# Altium integrated library Linear Technology Power Management uModule Regulators.IntLib: 166 symbols (part 65 of 67)
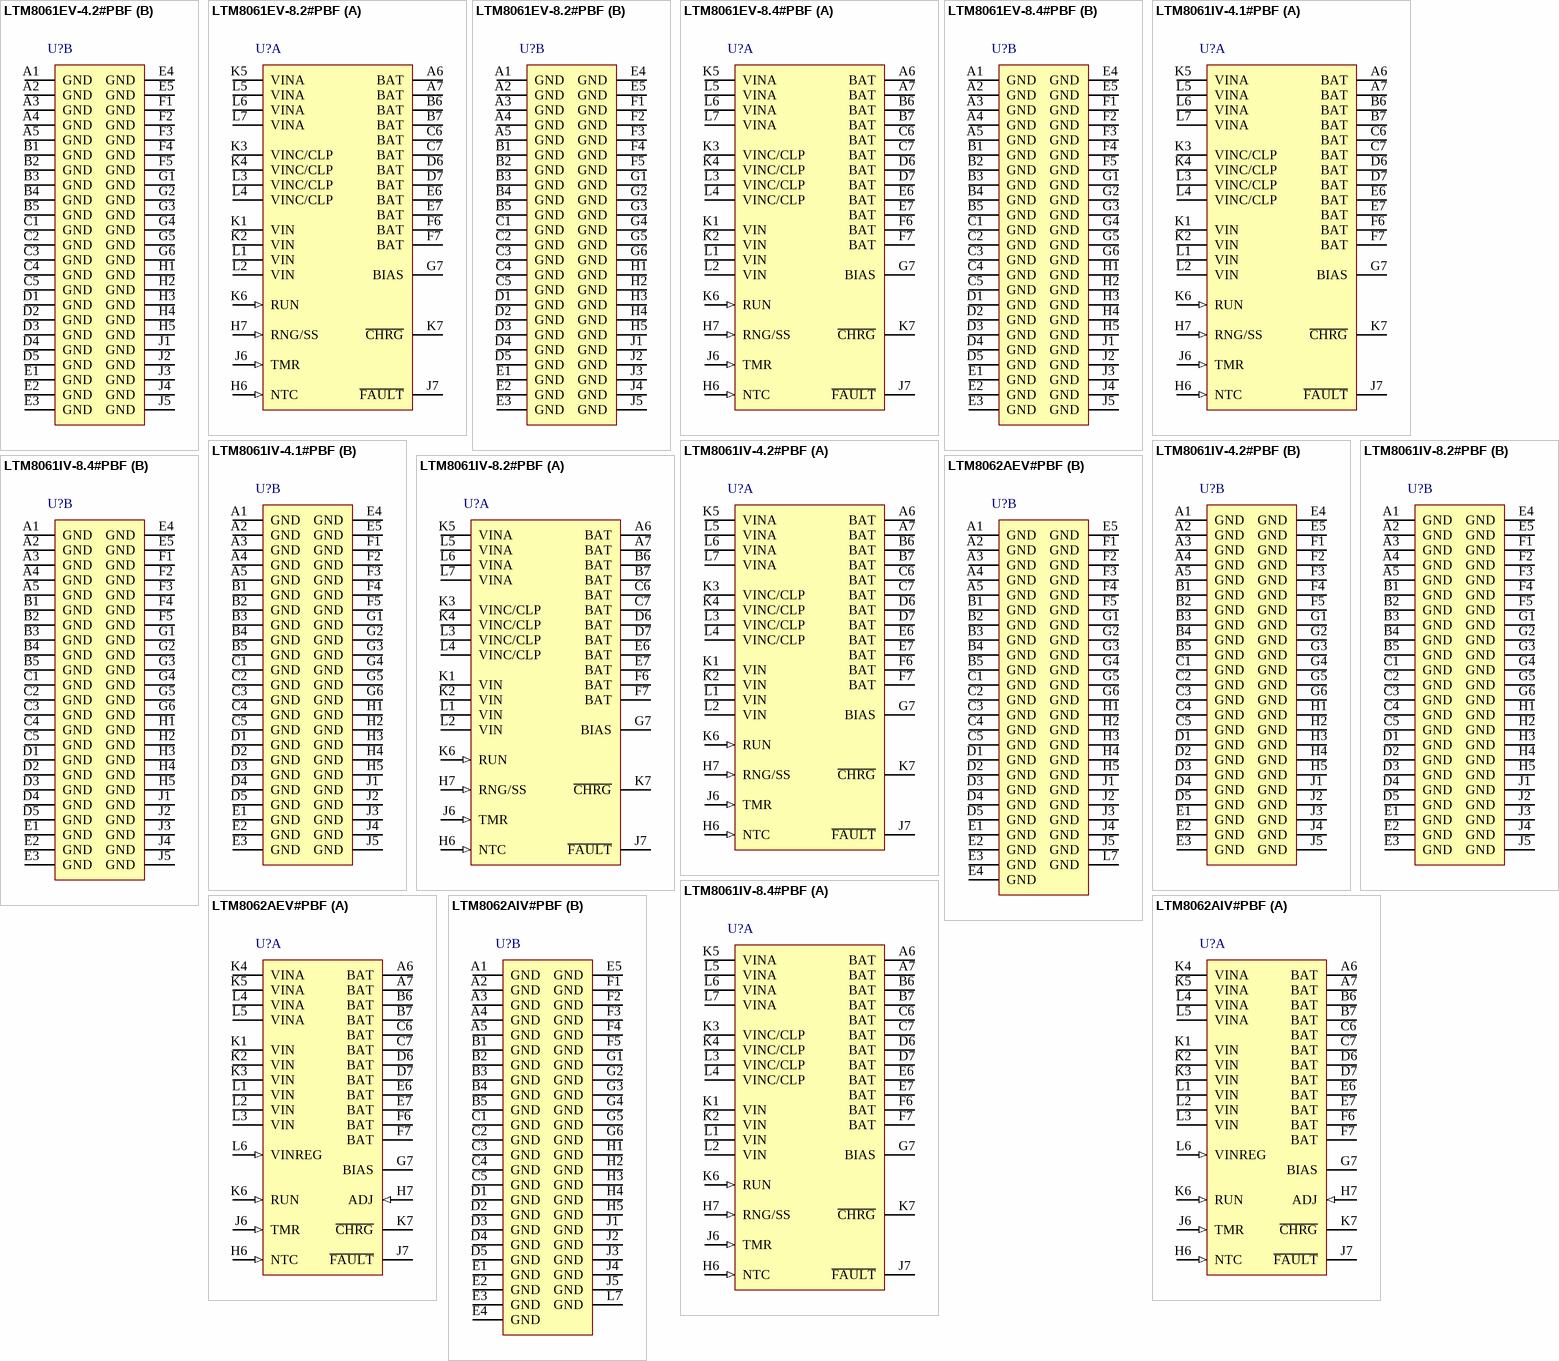
[diagram p91: symbols LTM8061EV-4.2#PBF to LTM8062AIV#PBF]

## LTM8061EV-8.2#PBF
designator U?
32 V, 2 A uModule Li-Ion / Polymer Battery Charger, 77-pin LGA, -40 to 125 degC, Pb-Free, Tray; Manufacturer: Linear Technology; PartNumber: LTM8061EV-8.2#PBF; Extended Temp: E, I; Frequency(kHz): 1000; Ishutdown(uA): 15; Isupply(mA): 0.085; Number of Outputs: 1; Output Current(A): 2; Switch Current(A): 3; Synchronous: no; Topology: Buck; Vin Max(V): 32; Vin Min(V): 4.95; Vout Max(V): 8.24; Vout Min(V): 8.16; PackageVersion: Rev. B, 01/2013; PackageReference: LGA-77; PackageDescription: 77-Pin LGA, Body 15 x 9 mm, Pitch 1.27 mm; Supplier 1: Digi-Key; Supplier Part Number 1: LTM8061EV-8.2#PBF-ND; Supplier 2: Farnell; Supplier Part Number 2: 1865709; Supplier 3: Newark; Supplier Part Number 3: 21T2056; Packing: Tray; RoHS: TRUE; Tracking: no; Mounting Technology: Surface Mount; ComponentLink1Description: Manufacturer URL; ComponentLink1URL: http://www.linear.com/; ComponentLink2Description: Datasheet; ComponentLink2URL: http://cds.linear.com/docs/en/datasheet/8061f.pdf; ComponentLink3Description: Package Specification; ComponentLink3URL: http://cds.linear.com/docs/en/packaging/05081856_B_lga77.pdf
footprint LT-LGA-77-05-08-1856_V (LGA, 77-Leads, Body 15x9mm, Pitch 1.27mm)
part A pins: A6 BAT (power) "Battery Charge Current Output Bus. The charge function operates to achieve the final float voltage at this pin. The auto-restart feature initiates a new charge cycle when the voltage at the BAT pin falls 2.5% below the float (See Datasheet)", A7 BAT (power) "Battery Charge Current Output Bus. The charge function operates to achieve the final float voltage at this pin. The auto-restart feature initiates a new charge cycle when the voltage at the BAT pin falls 2.5% below the float (See Datasheet)", B6 BAT (power) "Battery Charge Current Output Bus. The charge function operates to achieve the final float voltage at this pin. The auto-restart feature initiates a new charge cycle when the voltage at the BAT pin falls 2.5% below the float (See Datasheet)", B7 BAT (power) "Battery Charge Current Output Bus. The charge function operates to achieve the final float voltage at this pin. The auto-restart feature initiates a new charge cycle when the voltage at the BAT pin falls 2.5% below the float (See Datasheet)", C6 BAT (power) "Battery Charge Current Output Bus. The charge function operates to achieve the final float voltage at this pin. The auto-restart feature initiates a new charge cycle when the voltage at the BAT pin falls 2.5% below the float (See Datasheet)", C7 BAT (power) "Battery Charge Current Output Bus. The charge function operates to achieve the final float voltage at this pin. The auto-restart feature initiates a new charge cycle when the voltage at the BAT pin falls 2.5% below the float (See Datasheet)", D6 BAT (power) "Battery Charge Current Output Bus. The charge function operates to achieve the final float voltage at this pin. The auto-restart feature initiates a new charge cycle when the voltage at the BAT pin falls 2.5% below the float (See Datasheet)", D7 BAT (power) "Battery Charge Current Output Bus. The charge function operates to achieve the final float voltage at this pin. The auto-restart feature initiates a new charge cycle when the voltage at the BAT pin falls 2.5% below the float (See Datasheet)", E6 BAT (power) "Battery Charge Current Output Bus. The charge function operates to achieve the final float voltage at this pin. The auto-restart feature initiates a new charge cycle when the voltage at the BAT pin falls 2.5% below the float (See Datasheet)", E7 BAT (power) "Battery Charge Current Output Bus. The charge function operates to achieve the final float voltage at this pin. The auto-restart feature initiates a new charge cycle when the voltage at the BAT pin falls 2.5% below the float (See Datasheet)", F6 BAT (power) "Battery Charge Current Output Bus. The charge function operates to achieve the final float voltage at this pin. The auto-restart feature initiates a new charge cycle when the voltage at the BAT pin falls 2.5% below the float (See Datasheet)", F7 BAT (power) "Battery Charge Current Output Bus. The charge function operates to achieve the final float voltage at this pin. The auto-restart feature initiates a new charge cycle when the voltage at the BAT pin falls 2.5% below the float (See Datasheet)", G7 BIAS (power) "The BIAS pin connects to the internal power bus. Connect to a power source greater than 2.5V and less than 10V. In most applications, connect BIAS to BAT", H6 NTC (in) "Battery Temperature Monitor Pin. This pin is the input to the NTC (negative temperature coefficient) thermistor temperature monitoring circuit.", H7 RNG/SS (in) "Charge Current Programming/Soft-Start Pin.", J6 TMR (in) "End-Of-Cycle Timer Programming Pin.If a timer-based charge termination is desired, connect a capacitor from this pin to ground.", J7 ~{FAULT} (hiz) "Open-Collector Fault Status Output. Typically pulled up through a resistor to a reference voltage.", K1 VIN (power) "Charger Input Supply. Apply CIN here. Connect the input power here if no input power rectification is required.", K2 VIN (power) "Charger Input Supply. Apply CIN here. Connect the input power here if no input power rectification is required.", K3 VINC/CLP (power) "This pad bank connects to the cathode of the input reverse protection diode. In addition, system current levels can be monitored by connecting a sense resistor from this pin to the VIN pin.", K4 VINC/CLP (power) "This pad bank connects to the cathode of the input reverse protection diode. In addition, system current levels can be monitored by connecting a sense resistor from this pin to the VIN pin.", K5 VINA (power) "Anode of Input Reverse Protection Schottky Diode. Connect the input power here if input voltage protection is desired.", K6 RUN (in) "Precision Threshold Enable Pin. The RUN threshold is 1.20V (rising), with 120mV of input hysteresis.", K7 ~{CHRG} (hiz) "Open-Collector Charger Status Output.Typically pulled up through a resistor to a reference voltage.This status pin can be pulled up to voltages as high as VIN and can sink currents up to 10mA. During a battery charge cycle, (See Datasheet)", L1 VIN (power) "Charger Input Supply. Apply CIN here. Connect the input power here if no input power rectification is required.", L2 VIN (power) "Charger Input Supply. Apply CIN here. Connect the input power here if no input power rectification is required.", L3 VINC/CLP (power) "This pad bank connects to the cathode of the input reverse protection diode. In addition, system current levels can be monitored by connecting a sense resistor from this pin to the VIN pin.", L4 VINC/CLP (power) "This pad bank connects to the cathode of the input reverse protection diode. In addition, system current levels can be monitored by connecting a sense resistor from this pin to the VIN pin.", L5 VINA (power) "Anode of Input Reverse Protection Schottky Diode. Connect the input power here if input voltage protection is desired.", L6 VINA (power) "Anode of Input Reverse Protection Schottky Diode. Connect the input power here if input voltage protection is desired.", L7 VINA (power) "Anode of Input Reverse Protection Schottky Diode. Connect the input power here if input voltage protection is desired."
part B pins: A1 GND (power) "Power and Signal Ground Return.", A2 GND (power) "Power and Signal Ground Return.", A3 GND (power) "Power and Signal Ground Return.", A4 GND (power) "Power and Signal Ground Return.", A5 GND (power) "Power and Signal Ground Return.", B1 GND (power) "Power and Signal Ground Return.", B2 GND (power) "Power and Signal Ground Return.", B3 GND (power) "Power and Signal Ground Return.", B4 GND (power) "Power and Signal Ground Return.", B5 GND (power) "Power and Signal Ground Return.", C1 GND (power) "Power and Signal Ground Return.", C2 GND (power) "Power and Signal Ground Return.", C3 GND (power) "Power and Signal Ground Return.", C4 GND (power) "Power and Signal Ground Return.", C5 GND (power) "Power and Signal Ground Return.", D1 GND (power) "Power and Signal Ground Return.", D2 GND (power) "Power and Signal Ground Return.", D3 GND (power) "Power and Signal Ground Return.", D4 GND (power) "Power and Signal Ground Return.", D5 GND (power) "Power and Signal Ground Return.", E1 GND (power) "Power and Signal Ground Return.", E2 GND (power) "Power and Signal Ground Return.", E3 GND (power) "Power and Signal Ground Return.", E4 GND (power) "Power and Signal Ground Return.", E5 GND (power) "Power and Signal Ground Return.", F1 GND (power) "Power and Signal Ground Return.", F2 GND (power) "Power and Signal Ground Return.", F3 GND (power) "Power and Signal Ground Return.", F4 GND (power) "Power and Signal Ground Return.", F5 GND (power) "Power and Signal Ground Return.", G1 GND (power) "Power and Signal Ground Return.", G2 GND (power) "Power and Signal Ground Return.", G3 GND (power) "Power and Signal Ground Return.", G4 GND (power) "Power and Signal Ground Return.", G5 GND (power) "Power and Signal Ground Return.", G6 GND (power) "Power and Signal Ground Return.", H1 GND (power) "Power and Signal Ground Return.", H2 GND (power) "Power and Signal Ground Return.", H3 GND (power) "Power and Signal Ground Return.", H4 GND (power) "Power and Signal Ground Return.", H5 GND (power) "Power and Signal Ground Return.", J1 GND (power) "Power and Signal Ground Return.", J2 GND (power) "Power and Signal Ground Return.", J3 GND (power) "Power and Signal Ground Return.", J4 GND (power) "Power and Signal Ground Return.", J5 GND (power) "Power and Signal Ground Return."

## LTM8061EV-8.4#PBF
designator U?
32 V, 2 A uModule Li-Ion / Polymer Battery Charger, 77-pin LGA, -40 to 125 degC, Pb-Free, Tray; Manufacturer: Linear Technology; PartNumber: LTM8061EV-8.4#PBF; Extended Temp: E, I; Frequency(kHz): 1000; Ishutdown(uA): 15; Isupply(mA): 0.085; Number of Outputs: 1; Output Current(A): 2; Switch Current(A): 3; Synchronous: no; Topology: Buck; Vin Max(V): 32; Vin Min(V): 4.95; Vout Max(V): 8.44; Vout Min(V): 8.36; PackageVersion: Rev. B, 01/2013; PackageReference: LGA-77; PackageDescription: 77-Pin LGA, Body 15 x 9 mm, Pitch 1.27 mm; Supplier 1: Digi-Key; Supplier Part Number 1: LTM8061EV-8.4#PBF-ND; Supplier 2: Farnell; Supplier Part Number 2: 1865708; Supplier 3: Newark; Supplier Part Number 3: 21T2057; Packing: Tray; RoHS: TRUE; Tracking: no; Mounting Technology: Surface Mount; ComponentLink1Description: Manufacturer URL; ComponentLink1URL: http://www.linear.com/; ComponentLink2Description: Datasheet; ComponentLink2URL: http://cds.linear.com/docs/en/datasheet/8061f.pdf; ComponentLink3Description: Package Specification; ComponentLink3URL: http://cds.linear.com/docs/en/packaging/05081856_B_lga77.pdf
footprint LT-LGA-77-05-08-1856_V (LGA, 77-Leads, Body 15x9mm, Pitch 1.27mm)
part A pins: A6 BAT (power) "Battery Charge Current Output Bus. The charge function operates to achieve the final float voltage at this pin. The auto-restart feature initiates a new charge cycle when the voltage at the BAT pin falls 2.5% below the float (See Datasheet)", A7 BAT (power) "Battery Charge Current Output Bus. The charge function operates to achieve the final float voltage at this pin. The auto-restart feature initiates a new charge cycle when the voltage at the BAT pin falls 2.5% below the float (See Datasheet)", B6 BAT (power) "Battery Charge Current Output Bus. The charge function operates to achieve the final float voltage at this pin. The auto-restart feature initiates a new charge cycle when the voltage at the BAT pin falls 2.5% below the float (See Datasheet)", B7 BAT (power) "Battery Charge Current Output Bus. The charge function operates to achieve the final float voltage at this pin. The auto-restart feature initiates a new charge cycle when the voltage at the BAT pin falls 2.5% below the float (See Datasheet)", C6 BAT (power) "Battery Charge Current Output Bus. The charge function operates to achieve the final float voltage at this pin. The auto-restart feature initiates a new charge cycle when the voltage at the BAT pin falls 2.5% below the float (See Datasheet)", C7 BAT (power) "Battery Charge Current Output Bus. The charge function operates to achieve the final float voltage at this pin. The auto-restart feature initiates a new charge cycle when the voltage at the BAT pin falls 2.5% below the float (See Datasheet)", D6 BAT (power) "Battery Charge Current Output Bus. The charge function operates to achieve the final float voltage at this pin. The auto-restart feature initiates a new charge cycle when the voltage at the BAT pin falls 2.5% below the float (See Datasheet)", D7 BAT (power) "Battery Charge Current Output Bus. The charge function operates to achieve the final float voltage at this pin. The auto-restart feature initiates a new charge cycle when the voltage at the BAT pin falls 2.5% below the float (See Datasheet)", E6 BAT (power) "Battery Charge Current Output Bus. The charge function operates to achieve the final float voltage at this pin. The auto-restart feature initiates a new charge cycle when the voltage at the BAT pin falls 2.5% below the float (See Datasheet)", E7 BAT (power) "Battery Charge Current Output Bus. The charge function operates to achieve the final float voltage at this pin. The auto-restart feature initiates a new charge cycle when the voltage at the BAT pin falls 2.5% below the float (See Datasheet)", F6 BAT (power) "Battery Charge Current Output Bus. The charge function operates to achieve the final float voltage at this pin. The auto-restart feature initiates a new charge cycle when the voltage at the BAT pin falls 2.5% below the float (See Datasheet)", F7 BAT (power) "Battery Charge Current Output Bus. The charge function operates to achieve the final float voltage at this pin. The auto-restart feature initiates a new charge cycle when the voltage at the BAT pin falls 2.5% below the float (See Datasheet)", G7 BIAS (power) "The BIAS pin connects to the internal power bus. Connect to a power source greater than 2.5V and less than 10V. In most applications, connect BIAS to BAT", H6 NTC (in) "Battery Temperature Monitor Pin. This pin is the input to the NTC (negative temperature coefficient) thermistor temperature monitoring circuit.", H7 RNG/SS (in) "Charge Current Programming/Soft-Start Pin.", J6 TMR (in) "End-Of-Cycle Timer Programming Pin.If a timer-based charge termination is desired, connect a capacitor from this pin to ground.", J7 ~{FAULT} (hiz) "Open-Collector Fault Status Output. Typically pulled up through a resistor to a reference voltage.", K1 VIN (power) "Charger Input Supply. Apply CIN here. Connect the input power here if no input power rectification is required.", K2 VIN (power) "Charger Input Supply. Apply CIN here. Connect the input power here if no input power rectification is required.", K3 VINC/CLP (power) "This pad bank connects to the cathode of the input reverse protection diode. In addition, system current levels can be monitored by connecting a sense resistor from this pin to the VIN pin.", K4 VINC/CLP (power) "This pad bank connects to the cathode of the input reverse protection diode. In addition, system current levels can be monitored by connecting a sense resistor from this pin to the VIN pin.", K5 VINA (power) "Anode of Input Reverse Protection Schottky Diode. Connect the input power here if input voltage protection is desired.", K6 RUN (in) "Precision Threshold Enable Pin. The RUN threshold is 1.20V (rising), with 120mV of input hysteresis.", K7 ~{CHRG} (hiz) "Open-Collector Charger Status Output.Typically pulled up through a resistor to a reference voltage.This status pin can be pulled up to voltages as high as VIN and can sink currents up to 10mA. During a battery charge cycle, (See Datasheet)", L1 VIN (power) "Charger Input Supply. Apply CIN here. Connect the input power here if no input power rectification is required.", L2 VIN (power) "Charger Input Supply. Apply CIN here. Connect the input power here if no input power rectification is required.", L3 VINC/CLP (power) "This pad bank connects to the cathode of the input reverse protection diode. In addition, system current levels can be monitored by connecting a sense resistor from this pin to the VIN pin.", L4 VINC/CLP (power) "This pad bank connects to the cathode of the input reverse protection diode. In addition, system current levels can be monitored by connecting a sense resistor from this pin to the VIN pin.", L5 VINA (power) "Anode of Input Reverse Protection Schottky Diode. Connect the input power here if input voltage protection is desired.", L6 VINA (power) "Anode of Input Reverse Protection Schottky Diode. Connect the input power here if input voltage protection is desired.", L7 VINA (power) "Anode of Input Reverse Protection Schottky Diode. Connect the input power here if input voltage protection is desired."
part B pins: A1 GND (power) "Power and Signal Ground Return.", A2 GND (power) "Power and Signal Ground Return.", A3 GND (power) "Power and Signal Ground Return.", A4 GND (power) "Power and Signal Ground Return.", A5 GND (power) "Power and Signal Ground Return.", B1 GND (power) "Power and Signal Ground Return.", B2 GND (power) "Power and Signal Ground Return.", B3 GND (power) "Power and Signal Ground Return.", B4 GND (power) "Power and Signal Ground Return.", B5 GND (power) "Power and Signal Ground Return.", C1 GND (power) "Power and Signal Ground Return.", C2 GND (power) "Power and Signal Ground Return.", C3 GND (power) "Power and Signal Ground Return.", C4 GND (power) "Power and Signal Ground Return.", C5 GND (power) "Power and Signal Ground Return.", D1 GND (power) "Power and Signal Ground Return.", D2 GND (power) "Power and Signal Ground Return.", D3 GND (power) "Power and Signal Ground Return.", D4 GND (power) "Power and Signal Ground Return.", D5 GND (power) "Power and Signal Ground Return.", E1 GND (power) "Power and Signal Ground Return.", E2 GND (power) "Power and Signal Ground Return.", E3 GND (power) "Power and Signal Ground Return.", E4 GND (power) "Power and Signal Ground Return.", E5 GND (power) "Power and Signal Ground Return.", F1 GND (power) "Power and Signal Ground Return.", F2 GND (power) "Power and Signal Ground Return.", F3 GND (power) "Power and Signal Ground Return.", F4 GND (power) "Power and Signal Ground Return.", F5 GND (power) "Power and Signal Ground Return.", G1 GND (power) "Power and Signal Ground Return.", G2 GND (power) "Power and Signal Ground Return.", G3 GND (power) "Power and Signal Ground Return.", G4 GND (power) "Power and Signal Ground Return.", G5 GND (power) "Power and Signal Ground Return.", G6 GND (power) "Power and Signal Ground Return.", H1 GND (power) "Power and Signal Ground Return.", H2 GND (power) "Power and Signal Ground Return.", H3 GND (power) "Power and Signal Ground Return.", H4 GND (power) "Power and Signal Ground Return.", H5 GND (power) "Power and Signal Ground Return.", J1 GND (power) "Power and Signal Ground Return.", J2 GND (power) "Power and Signal Ground Return.", J3 GND (power) "Power and Signal Ground Return.", J4 GND (power) "Power and Signal Ground Return.", J5 GND (power) "Power and Signal Ground Return."

## LTM8061IV-4.1#PBF
designator U?
32 V, 2 A uModule Li-Ion / Polymer Battery Charger, 77-pin LGA, -40 to 125 degC, Pb-Free, Tray; Manufacturer: Linear Technology; PartNumber: LTM8061IV-4.1#PBF; Extended Temp: E, I; Frequency(kHz): 1000; Ishutdown(uA): 15; Isupply(mA): 0.085; Number of Outputs: 1; Output Current(A): 2; Switch Current(A): 3; Synchronous: no; Topology: Buck; Vin Max(V): 32; Vin Min(V): 4.95; Vout Max(V): 4.12; Vout Min(V): 4.08; PackageVersion: Rev. B, 01/2013; PackageReference: LGA-77; PackageDescription: 77-Pin LGA, Body 15 x 9 mm, Pitch 1.27 mm; Supplier 1: Digi-Key; Supplier Part Number 1: LTM8061IV-4.1#PBF-ND; Supplier 2: Farnell; Supplier Part Number 2: 1865707; Supplier 3: Newark; Supplier Part Number 3: 21T2058; Packing: Tray; RoHS: TRUE; Tracking: no; Mounting Technology: Surface Mount; ComponentLink1Description: Manufacturer URL; ComponentLink1URL: http://www.linear.com/; ComponentLink2Description: Datasheet; ComponentLink2URL: http://cds.linear.com/docs/en/datasheet/8061f.pdf; ComponentLink3Description: Package Specification; ComponentLink3URL: http://cds.linear.com/docs/en/packaging/05081856_B_lga77.pdf
footprint LT-LGA-77-05-08-1856_V (LGA, 77-Leads, Body 15x9mm, Pitch 1.27mm)
part A pins: A6 BAT (power) "Battery Charge Current Output Bus. The charge function operates to achieve the final float voltage at this pin. The auto-restart feature initiates a new charge cycle when the voltage at the BAT pin falls 2.5% below the float (See Datasheet)", A7 BAT (power) "Battery Charge Current Output Bus. The charge function operates to achieve the final float voltage at this pin. The auto-restart feature initiates a new charge cycle when the voltage at the BAT pin falls 2.5% below the float (See Datasheet)", B6 BAT (power) "Battery Charge Current Output Bus. The charge function operates to achieve the final float voltage at this pin. The auto-restart feature initiates a new charge cycle when the voltage at the BAT pin falls 2.5% below the float (See Datasheet)", B7 BAT (power) "Battery Charge Current Output Bus. The charge function operates to achieve the final float voltage at this pin. The auto-restart feature initiates a new charge cycle when the voltage at the BAT pin falls 2.5% below the float (See Datasheet)", C6 BAT (power) "Battery Charge Current Output Bus. The charge function operates to achieve the final float voltage at this pin. The auto-restart feature initiates a new charge cycle when the voltage at the BAT pin falls 2.5% below the float (See Datasheet)", C7 BAT (power) "Battery Charge Current Output Bus. The charge function operates to achieve the final float voltage at this pin. The auto-restart feature initiates a new charge cycle when the voltage at the BAT pin falls 2.5% below the float (See Datasheet)", D6 BAT (power) "Battery Charge Current Output Bus. The charge function operates to achieve the final float voltage at this pin. The auto-restart feature initiates a new charge cycle when the voltage at the BAT pin falls 2.5% below the float (See Datasheet)", D7 BAT (power) "Battery Charge Current Output Bus. The charge function operates to achieve the final float voltage at this pin. The auto-restart feature initiates a new charge cycle when the voltage at the BAT pin falls 2.5% below the float (See Datasheet)", E6 BAT (power) "Battery Charge Current Output Bus. The charge function operates to achieve the final float voltage at this pin. The auto-restart feature initiates a new charge cycle when the voltage at the BAT pin falls 2.5% below the float (See Datasheet)", E7 BAT (power) "Battery Charge Current Output Bus. The charge function operates to achieve the final float voltage at this pin. The auto-restart feature initiates a new charge cycle when the voltage at the BAT pin falls 2.5% below the float (See Datasheet)", F6 BAT (power) "Battery Charge Current Output Bus. The charge function operates to achieve the final float voltage at this pin. The auto-restart feature initiates a new charge cycle when the voltage at the BAT pin falls 2.5% below the float (See Datasheet)", F7 BAT (power) "Battery Charge Current Output Bus. The charge function operates to achieve the final float voltage at this pin. The auto-restart feature initiates a new charge cycle when the voltage at the BAT pin falls 2.5% below the float (See Datasheet)", G7 BIAS (power) "The BIAS pin connects to the internal power bus. Connect to a power source greater than 2.5V and less than 10V. In most applications, connect BIAS to BAT", H6 NTC (in) "Battery Temperature Monitor Pin. This pin is the input to the NTC (negative temperature coefficient) thermistor temperature monitoring circuit.", H7 RNG/SS (in) "Charge Current Programming/Soft-Start Pin.", J6 TMR (in) "End-Of-Cycle Timer Programming Pin.If a timer-based charge termination is desired, connect a capacitor from this pin to ground.", J7 ~{FAULT} (hiz) "Open-Collector Fault Status Output. Typically pulled up through a resistor to a reference voltage.", K1 VIN (power) "Charger Input Supply. Apply CIN here. Connect the input power here if no input power rectification is required.", K2 VIN (power) "Charger Input Supply. Apply CIN here. Connect the input power here if no input power rectification is required.", K3 VINC/CLP (power) "This pad bank connects to the cathode of the input reverse protection diode. In addition, system current levels can be monitored by connecting a sense resistor from this pin to the VIN pin.", K4 VINC/CLP (power) "This pad bank connects to the cathode of the input reverse protection diode. In addition, system current levels can be monitored by connecting a sense resistor from this pin to the VIN pin.", K5 VINA (power) "Anode of Input Reverse Protection Schottky Diode. Connect the input power here if input voltage protection is desired.", K6 RUN (in) "Precision Threshold Enable Pin. The RUN threshold is 1.20V (rising), with 120mV of input hysteresis.", K7 ~{CHRG} (hiz) "Open-Collector Charger Status Output.Typically pulled up through a resistor to a reference voltage.This status pin can be pulled up to voltages as high as VIN and can sink currents up to 10mA. During a battery charge cycle, (See Datasheet)", L1 VIN (power) "Charger Input Supply. Apply CIN here. Connect the input power here if no input power rectification is required.", L2 VIN (power) "Charger Input Supply. Apply CIN here. Connect the input power here if no input power rectification is required.", L3 VINC/CLP (power) "This pad bank connects to the cathode of the input reverse protection diode. In addition, system current levels can be monitored by connecting a sense resistor from this pin to the VIN pin.", L4 VINC/CLP (power) "This pad bank connects to the cathode of the input reverse protection diode. In addition, system current levels can be monitored by connecting a sense resistor from this pin to the VIN pin.", L5 VINA (power) "Anode of Input Reverse Protection Schottky Diode. Connect the input power here if input voltage protection is desired.", L6 VINA (power) "Anode of Input Reverse Protection Schottky Diode. Connect the input power here if input voltage protection is desired.", L7 VINA (power) "Anode of Input Reverse Protection Schottky Diode. Connect the input power here if input voltage protection is desired."
part B pins: A1 GND (power) "Power and Signal Ground Return.", A2 GND (power) "Power and Signal Ground Return.", A3 GND (power) "Power and Signal Ground Return.", A4 GND (power) "Power and Signal Ground Return.", A5 GND (power) "Power and Signal Ground Return.", B1 GND (power) "Power and Signal Ground Return.", B2 GND (power) "Power and Signal Ground Return.", B3 GND (power) "Power and Signal Ground Return.", B4 GND (power) "Power and Signal Ground Return.", B5 GND (power) "Power and Signal Ground Return.", C1 GND (power) "Power and Signal Ground Return.", C2 GND (power) "Power and Signal Ground Return.", C3 GND (power) "Power and Signal Ground Return.", C4 GND (power) "Power and Signal Ground Return.", C5 GND (power) "Power and Signal Ground Return.", D1 GND (power) "Power and Signal Ground Return.", D2 GND (power) "Power and Signal Ground Return.", D3 GND (power) "Power and Signal Ground Return.", D4 GND (power) "Power and Signal Ground Return.", D5 GND (power) "Power and Signal Ground Return.", E1 GND (power) "Power and Signal Ground Return.", E2 GND (power) "Power and Signal Ground Return.", E3 GND (power) "Power and Signal Ground Return.", E4 GND (power) "Power and Signal Ground Return.", E5 GND (power) "Power and Signal Ground Return.", F1 GND (power) "Power and Signal Ground Return.", F2 GND (power) "Power and Signal Ground Return.", F3 GND (power) "Power and Signal Ground Return.", F4 GND (power) "Power and Signal Ground Return.", F5 GND (power) "Power and Signal Ground Return.", G1 GND (power) "Power and Signal Ground Return.", G2 GND (power) "Power and Signal Ground Return.", G3 GND (power) "Power and Signal Ground Return.", G4 GND (power) "Power and Signal Ground Return.", G5 GND (power) "Power and Signal Ground Return.", G6 GND (power) "Power and Signal Ground Return.", H1 GND (power) "Power and Signal Ground Return.", H2 GND (power) "Power and Signal Ground Return.", H3 GND (power) "Power and Signal Ground Return.", H4 GND (power) "Power and Signal Ground Return.", H5 GND (power) "Power and Signal Ground Return.", J1 GND (power) "Power and Signal Ground Return.", J2 GND (power) "Power and Signal Ground Return.", J3 GND (power) "Power and Signal Ground Return.", J4 GND (power) "Power and Signal Ground Return.", J5 GND (power) "Power and Signal Ground Return."

## LTM8061IV-4.2#PBF
designator U?
32 V, 2 A uModule Li-Ion / Polymer Battery Charger, 77-pin LGA, -40 to 125 degC, Pb-Free, Tray; Manufacturer: Linear Technology; PartNumber: LTM8061IV-4.2#PBF; Extended Temp: E, I; Frequency(kHz): 1000; Ishutdown(uA): 15; Isupply(mA): 0.085; Number of Outputs: 1; Output Current(A): 2; Switch Current(A): 3; Synchronous: no; Topology: Buck; Vin Max(V): 32; Vin Min(V): 4.95; Vout Max(V): 4.22; Vout Min(V): 4.18; PackageVersion: Rev. B, 01/2013; PackageReference: LGA-77; PackageDescription: 77-Pin LGA, Body 15 x 9 mm, Pitch 1.27 mm; Supplier 1: Digi-Key; Supplier Part Number 1: LTM8061IV-4.2#PBF-ND; Supplier 2: Farnell; Supplier Part Number 2: 1865706; Supplier 3: Newark; Supplier Part Number 3: 21T2059; Packing: Tray; RoHS: TRUE; Tracking: no; Mounting Technology: Surface Mount; ComponentLink1Description: Manufacturer URL; ComponentLink1URL: http://www.linear.com/; ComponentLink2Description: Datasheet; ComponentLink2URL: http://cds.linear.com/docs/en/datasheet/8061f.pdf; ComponentLink3Description: Package Specification; ComponentLink3URL: http://cds.linear.com/docs/en/packaging/05081856_B_lga77.pdf
footprint LT-LGA-77-05-08-1856_V (LGA, 77-Leads, Body 15x9mm, Pitch 1.27mm)
part A pins: A6 BAT (power) "Battery Charge Current Output Bus. The charge function operates to achieve the final float voltage at this pin. The auto-restart feature initiates a new charge cycle when the voltage at the BAT pin falls 2.5% below the float (See Datasheet)", A7 BAT (power) "Battery Charge Current Output Bus. The charge function operates to achieve the final float voltage at this pin. The auto-restart feature initiates a new charge cycle when the voltage at the BAT pin falls 2.5% below the float (See Datasheet)", B6 BAT (power) "Battery Charge Current Output Bus. The charge function operates to achieve the final float voltage at this pin. The auto-restart feature initiates a new charge cycle when the voltage at the BAT pin falls 2.5% below the float (See Datasheet)", B7 BAT (power) "Battery Charge Current Output Bus. The charge function operates to achieve the final float voltage at this pin. The auto-restart feature initiates a new charge cycle when the voltage at the BAT pin falls 2.5% below the float (See Datasheet)", C6 BAT (power) "Battery Charge Current Output Bus. The charge function operates to achieve the final float voltage at this pin. The auto-restart feature initiates a new charge cycle when the voltage at the BAT pin falls 2.5% below the float (See Datasheet)", C7 BAT (power) "Battery Charge Current Output Bus. The charge function operates to achieve the final float voltage at this pin. The auto-restart feature initiates a new charge cycle when the voltage at the BAT pin falls 2.5% below the float (See Datasheet)", D6 BAT (power) "Battery Charge Current Output Bus. The charge function operates to achieve the final float voltage at this pin. The auto-restart feature initiates a new charge cycle when the voltage at the BAT pin falls 2.5% below the float (See Datasheet)", D7 BAT (power) "Battery Charge Current Output Bus. The charge function operates to achieve the final float voltage at this pin. The auto-restart feature initiates a new charge cycle when the voltage at the BAT pin falls 2.5% below the float (See Datasheet)", E6 BAT (power) "Battery Charge Current Output Bus. The charge function operates to achieve the final float voltage at this pin. The auto-restart feature initiates a new charge cycle when the voltage at the BAT pin falls 2.5% below the float (See Datasheet)", E7 BAT (power) "Battery Charge Current Output Bus. The charge function operates to achieve the final float voltage at this pin. The auto-restart feature initiates a new charge cycle when the voltage at the BAT pin falls 2.5% below the float (See Datasheet)", F6 BAT (power) "Battery Charge Current Output Bus. The charge function operates to achieve the final float voltage at this pin. The auto-restart feature initiates a new charge cycle when the voltage at the BAT pin falls 2.5% below the float (See Datasheet)", F7 BAT (power) "Battery Charge Current Output Bus. The charge function operates to achieve the final float voltage at this pin. The auto-restart feature initiates a new charge cycle when the voltage at the BAT pin falls 2.5% below the float (See Datasheet)", G7 BIAS (power) "The BIAS pin connects to the internal power bus. Connect to a power source greater than 2.5V and less than 10V. In most applications, connect BIAS to BAT", H6 NTC (in) "Battery Temperature Monitor Pin. This pin is the input to the NTC (negative temperature coefficient) thermistor temperature monitoring circuit.", H7 RNG/SS (in) "Charge Current Programming/Soft-Start Pin.", J6 TMR (in) "End-Of-Cycle Timer Programming Pin.If a timer-based charge termination is desired, connect a capacitor from this pin to ground.", J7 ~{FAULT} (hiz) "Open-Collector Fault Status Output. Typically pulled up through a resistor to a reference voltage.", K1 VIN (power) "Charger Input Supply. Apply CIN here. Connect the input power here if no input power rectification is required.", K2 VIN (power) "Charger Input Supply. Apply CIN here. Connect the input power here if no input power rectification is required.", K3 VINC/CLP (power) "This pad bank connects to the cathode of the input reverse protection diode. In addition, system current levels can be monitored by connecting a sense resistor from this pin to the VIN pin.", K4 VINC/CLP (power) "This pad bank connects to the cathode of the input reverse protection diode. In addition, system current levels can be monitored by connecting a sense resistor from this pin to the VIN pin.", K5 VINA (power) "Anode of Input Reverse Protection Schottky Diode. Connect the input power here if input voltage protection is desired.", K6 RUN (in) "Precision Threshold Enable Pin. The RUN threshold is 1.20V (rising), with 120mV of input hysteresis.", K7 ~{CHRG} (hiz) "Open-Collector Charger Status Output.Typically pulled up through a resistor to a reference voltage.This status pin can be pulled up to voltages as high as VIN and can sink currents up to 10mA. During a battery charge cycle, (See Datasheet)", L1 VIN (power) "Charger Input Supply. Apply CIN here. Connect the input power here if no input power rectification is required.", L2 VIN (power) "Charger Input Supply. Apply CIN here. Connect the input power here if no input power rectification is required.", L3 VINC/CLP (power) "This pad bank connects to the cathode of the input reverse protection diode. In addition, system current levels can be monitored by connecting a sense resistor from this pin to the VIN pin.", L4 VINC/CLP (power) "This pad bank connects to the cathode of the input reverse protection diode. In addition, system current levels can be monitored by connecting a sense resistor from this pin to the VIN pin.", L5 VINA (power) "Anode of Input Reverse Protection Schottky Diode. Connect the input power here if input voltage protection is desired.", L6 VINA (power) "Anode of Input Reverse Protection Schottky Diode. Connect the input power here if input voltage protection is desired.", L7 VINA (power) "Anode of Input Reverse Protection Schottky Diode. Connect the input power here if input voltage protection is desired."
part B pins: A1 GND (power) "Power and Signal Ground Return.", A2 GND (power) "Power and Signal Ground Return.", A3 GND (power) "Power and Signal Ground Return.", A4 GND (power) "Power and Signal Ground Return.", A5 GND (power) "Power and Signal Ground Return.", B1 GND (power) "Power and Signal Ground Return.", B2 GND (power) "Power and Signal Ground Return.", B3 GND (power) "Power and Signal Ground Return.", B4 GND (power) "Power and Signal Ground Return.", B5 GND (power) "Power and Signal Ground Return.", C1 GND (power) "Power and Signal Ground Return.", C2 GND (power) "Power and Signal Ground Return.", C3 GND (power) "Power and Signal Ground Return.", C4 GND (power) "Power and Signal Ground Return.", C5 GND (power) "Power and Signal Ground Return.", D1 GND (power) "Power and Signal Ground Return.", D2 GND (power) "Power and Signal Ground Return.", D3 GND (power) "Power and Signal Ground Return.", D4 GND (power) "Power and Signal Ground Return.", D5 GND (power) "Power and Signal Ground Return.", E1 GND (power) "Power and Signal Ground Return.", E2 GND (power) "Power and Signal Ground Return.", E3 GND (power) "Power and Signal Ground Return.", E4 GND (power) "Power and Signal Ground Return.", E5 GND (power) "Power and Signal Ground Return.", F1 GND (power) "Power and Signal Ground Return.", F2 GND (power) "Power and Signal Ground Return.", F3 GND (power) "Power and Signal Ground Return.", F4 GND (power) "Power and Signal Ground Return.", F5 GND (power) "Power and Signal Ground Return.", G1 GND (power) "Power and Signal Ground Return.", G2 GND (power) "Power and Signal Ground Return.", G3 GND (power) "Power and Signal Ground Return.", G4 GND (power) "Power and Signal Ground Return.", G5 GND (power) "Power and Signal Ground Return.", G6 GND (power) "Power and Signal Ground Return.", H1 GND (power) "Power and Signal Ground Return.", H2 GND (power) "Power and Signal Ground Return.", H3 GND (power) "Power and Signal Ground Return.", H4 GND (power) "Power and Signal Ground Return.", H5 GND (power) "Power and Signal Ground Return.", J1 GND (power) "Power and Signal Ground Return.", J2 GND (power) "Power and Signal Ground Return.", J3 GND (power) "Power and Signal Ground Return.", J4 GND (power) "Power and Signal Ground Return.", J5 GND (power) "Power and Signal Ground Return."

## LTM8061IV-8.2#PBF
designator U?
32 V, 2 A uModule Li-Ion / Polymer Battery Charger, 77-pin LGA, -40 to 125 degC, Pb-Free, Tray; Manufacturer: Linear Technology; PartNumber: LTM8061IV-8.2#PBF; Extended Temp: E, I; Frequency(kHz): 1000; Ishutdown(uA): 15; Isupply(mA): 0.085; Number of Outputs: 1; Output Current(A): 2; Switch Current(A): 3; Synchronous: no; Topology: Buck; Vin Max(V): 32; Vin Min(V): 4.95; Vout Max(V): 8.24; Vout Min(V): 8.16; PackageVersion: Rev. B, 01/2013; PackageReference: LGA-77; PackageDescription: 77-Pin LGA, Body 15 x 9 mm, Pitch 1.27 mm; Supplier 1: Digi-Key; Supplier Part Number 1: LTM8061IV-8.2#PBF-ND; Supplier 2: Farnell; Supplier Part Number 2: 1865704; Supplier 3: Newark; Supplier Part Number 3: 21T2060; Packing: Tray; RoHS: TRUE; Tracking: no; Mounting Technology: Surface Mount; ComponentLink1Description: Manufacturer URL; ComponentLink1URL: http://www.linear.com/; ComponentLink2Description: Datasheet; ComponentLink2URL: http://cds.linear.com/docs/en/datasheet/8061f.pdf; ComponentLink3Description: Package Specification; ComponentLink3URL: http://cds.linear.com/docs/en/packaging/05081856_B_lga77.pdf
footprint LT-LGA-77-05-08-1856_V (LGA, 77-Leads, Body 15x9mm, Pitch 1.27mm)
part A pins: A6 BAT (power) "Battery Charge Current Output Bus. The charge function operates to achieve the final float voltage at this pin. The auto-restart feature initiates a new charge cycle when the voltage at the BAT pin falls 2.5% below the float (See Datasheet)", A7 BAT (power) "Battery Charge Current Output Bus. The charge function operates to achieve the final float voltage at this pin. The auto-restart feature initiates a new charge cycle when the voltage at the BAT pin falls 2.5% below the float (See Datasheet)", B6 BAT (power) "Battery Charge Current Output Bus. The charge function operates to achieve the final float voltage at this pin. The auto-restart feature initiates a new charge cycle when the voltage at the BAT pin falls 2.5% below the float (See Datasheet)", B7 BAT (power) "Battery Charge Current Output Bus. The charge function operates to achieve the final float voltage at this pin. The auto-restart feature initiates a new charge cycle when the voltage at the BAT pin falls 2.5% below the float (See Datasheet)", C6 BAT (power) "Battery Charge Current Output Bus. The charge function operates to achieve the final float voltage at this pin. The auto-restart feature initiates a new charge cycle when the voltage at the BAT pin falls 2.5% below the float (See Datasheet)", C7 BAT (power) "Battery Charge Current Output Bus. The charge function operates to achieve the final float voltage at this pin. The auto-restart feature initiates a new charge cycle when the voltage at the BAT pin falls 2.5% below the float (See Datasheet)", D6 BAT (power) "Battery Charge Current Output Bus. The charge function operates to achieve the final float voltage at this pin. The auto-restart feature initiates a new charge cycle when the voltage at the BAT pin falls 2.5% below the float (See Datasheet)", D7 BAT (power) "Battery Charge Current Output Bus. The charge function operates to achieve the final float voltage at this pin. The auto-restart feature initiates a new charge cycle when the voltage at the BAT pin falls 2.5% below the float (See Datasheet)", E6 BAT (power) "Battery Charge Current Output Bus. The charge function operates to achieve the final float voltage at this pin. The auto-restart feature initiates a new charge cycle when the voltage at the BAT pin falls 2.5% below the float (See Datasheet)", E7 BAT (power) "Battery Charge Current Output Bus. The charge function operates to achieve the final float voltage at this pin. The auto-restart feature initiates a new charge cycle when the voltage at the BAT pin falls 2.5% below the float (See Datasheet)", F6 BAT (power) "Battery Charge Current Output Bus. The charge function operates to achieve the final float voltage at this pin. The auto-restart feature initiates a new charge cycle when the voltage at the BAT pin falls 2.5% below the float (See Datasheet)", F7 BAT (power) "Battery Charge Current Output Bus. The charge function operates to achieve the final float voltage at this pin. The auto-restart feature initiates a new charge cycle when the voltage at the BAT pin falls 2.5% below the float (See Datasheet)", G7 BIAS (power) "The BIAS pin connects to the internal power bus. Connect to a power source greater than 2.5V and less than 10V. In most applications, connect BIAS to BAT", H6 NTC (in) "Battery Temperature Monitor Pin. This pin is the input to the NTC (negative temperature coefficient) thermistor temperature monitoring circuit.", H7 RNG/SS (in) "Charge Current Programming/Soft-Start Pin.", J6 TMR (in) "End-Of-Cycle Timer Programming Pin.If a timer-based charge termination is desired, connect a capacitor from this pin to ground.", J7 ~{FAULT} (hiz) "Open-Collector Fault Status Output. Typically pulled up through a resistor to a reference voltage.", K1 VIN (power) "Charger Input Supply. Apply CIN here. Connect the input power here if no input power rectification is required.", K2 VIN (power) "Charger Input Supply. Apply CIN here. Connect the input power here if no input power rectification is required.", K3 VINC/CLP (power) "This pad bank connects to the cathode of the input reverse protection diode. In addition, system current levels can be monitored by connecting a sense resistor from this pin to the VIN pin.", K4 VINC/CLP (power) "This pad bank connects to the cathode of the input reverse protection diode. In addition, system current levels can be monitored by connecting a sense resistor from this pin to the VIN pin.", K5 VINA (power) "Anode of Input Reverse Protection Schottky Diode. Connect the input power here if input voltage protection is desired.", K6 RUN (in) "Precision Threshold Enable Pin. The RUN threshold is 1.20V (rising), with 120mV of input hysteresis.", K7 ~{CHRG} (hiz) "Open-Collector Charger Status Output.Typically pulled up through a resistor to a reference voltage.This status pin can be pulled up to voltages as high as VIN and can sink currents up to 10mA. During a battery charge cycle, (See Datasheet)", L1 VIN (power) "Charger Input Supply. Apply CIN here. Connect the input power here if no input power rectification is required.", L2 VIN (power) "Charger Input Supply. Apply CIN here. Connect the input power here if no input power rectification is required.", L3 VINC/CLP (power) "This pad bank connects to the cathode of the input reverse protection diode. In addition, system current levels can be monitored by connecting a sense resistor from this pin to the VIN pin.", L4 VINC/CLP (power) "This pad bank connects to the cathode of the input reverse protection diode. In addition, system current levels can be monitored by connecting a sense resistor from this pin to the VIN pin.", L5 VINA (power) "Anode of Input Reverse Protection Schottky Diode. Connect the input power here if input voltage protection is desired.", L6 VINA (power) "Anode of Input Reverse Protection Schottky Diode. Connect the input power here if input voltage protection is desired.", L7 VINA (power) "Anode of Input Reverse Protection Schottky Diode. Connect the input power here if input voltage protection is desired."
part B pins: A1 GND (power) "Power and Signal Ground Return.", A2 GND (power) "Power and Signal Ground Return.", A3 GND (power) "Power and Signal Ground Return.", A4 GND (power) "Power and Signal Ground Return.", A5 GND (power) "Power and Signal Ground Return.", B1 GND (power) "Power and Signal Ground Return.", B2 GND (power) "Power and Signal Ground Return.", B3 GND (power) "Power and Signal Ground Return.", B4 GND (power) "Power and Signal Ground Return.", B5 GND (power) "Power and Signal Ground Return.", C1 GND (power) "Power and Signal Ground Return.", C2 GND (power) "Power and Signal Ground Return.", C3 GND (power) "Power and Signal Ground Return.", C4 GND (power) "Power and Signal Ground Return.", C5 GND (power) "Power and Signal Ground Return.", D1 GND (power) "Power and Signal Ground Return.", D2 GND (power) "Power and Signal Ground Return.", D3 GND (power) "Power and Signal Ground Return.", D4 GND (power) "Power and Signal Ground Return.", D5 GND (power) "Power and Signal Ground Return.", E1 GND (power) "Power and Signal Ground Return.", E2 GND (power) "Power and Signal Ground Return.", E3 GND (power) "Power and Signal Ground Return.", E4 GND (power) "Power and Signal Ground Return.", E5 GND (power) "Power and Signal Ground Return.", F1 GND (power) "Power and Signal Ground Return.", F2 GND (power) "Power and Signal Ground Return.", F3 GND (power) "Power and Signal Ground Return.", F4 GND (power) "Power and Signal Ground Return.", F5 GND (power) "Power and Signal Ground Return.", G1 GND (power) "Power and Signal Ground Return.", G2 GND (power) "Power and Signal Ground Return.", G3 GND (power) "Power and Signal Ground Return.", G4 GND (power) "Power and Signal Ground Return.", G5 GND (power) "Power and Signal Ground Return.", G6 GND (power) "Power and Signal Ground Return.", H1 GND (power) "Power and Signal Ground Return.", H2 GND (power) "Power and Signal Ground Return.", H3 GND (power) "Power and Signal Ground Return.", H4 GND (power) "Power and Signal Ground Return.", H5 GND (power) "Power and Signal Ground Return.", J1 GND (power) "Power and Signal Ground Return.", J2 GND (power) "Power and Signal Ground Return.", J3 GND (power) "Power and Signal Ground Return.", J4 GND (power) "Power and Signal Ground Return.", J5 GND (power) "Power and Signal Ground Return."